# Altium schematic symbol library AQM0802A-RN-GBW.SchLib: 1 symbol
Pins are listed as number, name and electrical type; pins without a type are passive.

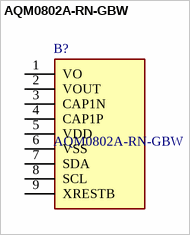
[diagram p0: symbol AQM0802A-RN-GBW]

## AQM0802A-RN-GBW
designator B?
Display 1.5mm pitch; Manufacturer_Name: Costava; Geometry.Height: 1.8mm; RS Part Number: *; RS Price/Stock: *; Manufacturer_Part_Number: AQM0802A-RN-GBW; Datasheet Link: http://akizukidenshi.com/download/ds/xiamen/AQM0802.pdf
footprint AQM0802ARNGBW
pins: 1 VO, 2 VOUT, 3 CAP1N, 4 CAP1P, 5 VDD, 6 VSS, 7 SDA, 8 SCL, 9 XRESTB